# EAGLE library part CH430K (library angelo-ch340k-nopad)
CH340K usb - uart
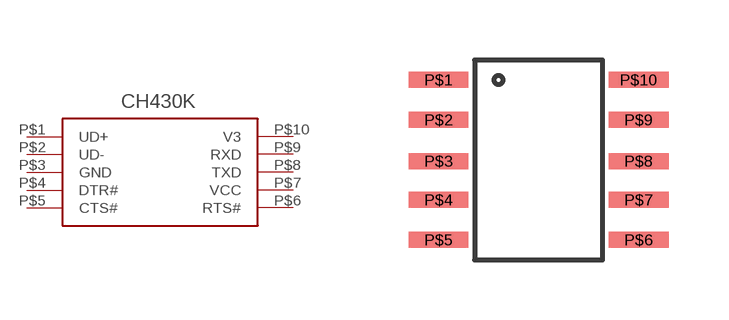
[diagram p0: symbol with the pads of ESSOP-10; footprint ESSOP-10]

Designator prefix -

## CH430K  [ESSOP-10]
P$1  UD+
P$2  UD-
P$3  GND  pwr
P$4  DTR#
P$5  CTS#
P$6  RTS#
P$7  VCC  pwr
P$8  TXD
P$9  RXD
P$10  V3

## Footprint ESSOP-10 (pad centres in mm)
smd 1.5 x 0.4: P$1 -2.5,2; P$2 -2.5,1; P$3 -2.5,-0.032; P$4 -2.5,-1; P$5 -2.5,-2; P$6 2.5,-2; P$7 2.5,-1; P$8 2.5,-0.032; P$9 2.5,1; P$10 2.5,2